# Altium footprint library HC-49SM.PcbLib: 2 footprints
Each footprint in its own frame and in the unit in brackets; x right, y up, seen from the top. Pads: shape width x height; smd on the part's side, far side on the other; paste and mask are expansions set on the pad; w line width, h text height; cw(c..) or ccw(c..) is an arc to the next point about the centre after c.
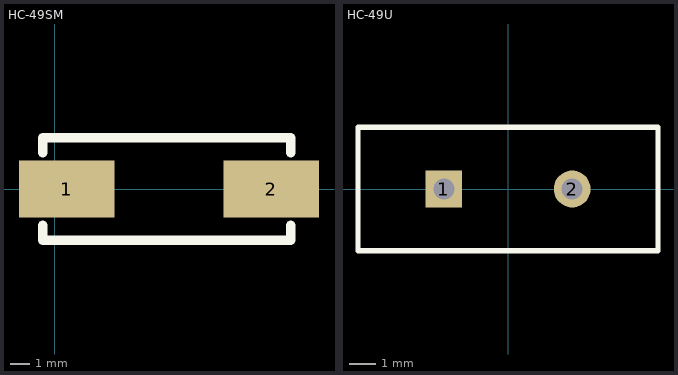
[diagram p0: the footprints below, top view; thin cyan lines are the x and y axes]

## HC-49SM [mm]
height 5
pads (2):
  rect 5x3 smd: 1(0.635,0) 2(11.303,0)
Top Overlay:
  lines w0.5: -0.635,-1.905 -0.635,-2.667 12.319,-2.667 12.319,-1.905 ; -0.635,1.905 -0.635,2.667 12.319,2.667 12.319,1.905
3D body "Crystal HC49_US-SM.step": height 4.3, standoff 0, extent -0.431,-2.415 12.369,2.415

## HC-49U [mm] "Quartz Crystal, Thru-Hole; 2 Leads; Body 11.35 x 4.65 x 13.46 mm (LxWxH max)"
height 13.46
pads (2):
  rect 1.4x1.4 hole 0.8: 1(-2.44,0)
  round 1.4 hole 0.8: 2(2.44,0)
Top Overlay:
  lines w0.2: -5.7,-2.35 -5.7,2.35 5.7,2.35 5.7,-2.35 -5.7,-2.35
3D body "HU-49.STEP": height 3.7, standoff -1.8, extent -5.7,-2.4 5.7,2.4